# EAGLE library part LMC6462 (library IIT_BOMBAY_Racing)
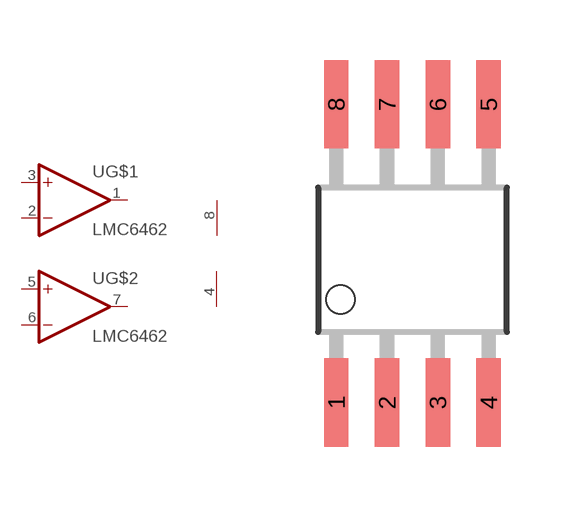
[diagram p2: symbol with the pads of S08; footprint S08]

Designator prefix -; gates G$1=OPAMP G$2=OPAMP G$5=PWR+-

## LMC6462  [S08]
1  G$1:OUT  out
2  G$1:-IN  in
3  G$1:+IN  in
4  G$5:V-  pwr
5  G$2:+IN  in
6  G$2:-IN  in
7  G$2:OUT  out
8  G$5:V+  pwr

## Footprint S08 (pad centres in mm)
smd 0.61 x 2.21: 1 -1.905,-3.569; 2 -0.635,-3.569; 3 0.635,-3.569; 4 1.905,-3.569; 5 1.905,3.886; 6 0.635,3.886; 7 -0.635,3.886; 8 -1.905,3.886